# EAGLE library part CEM3340 (library _mtvl_ic)
VCO
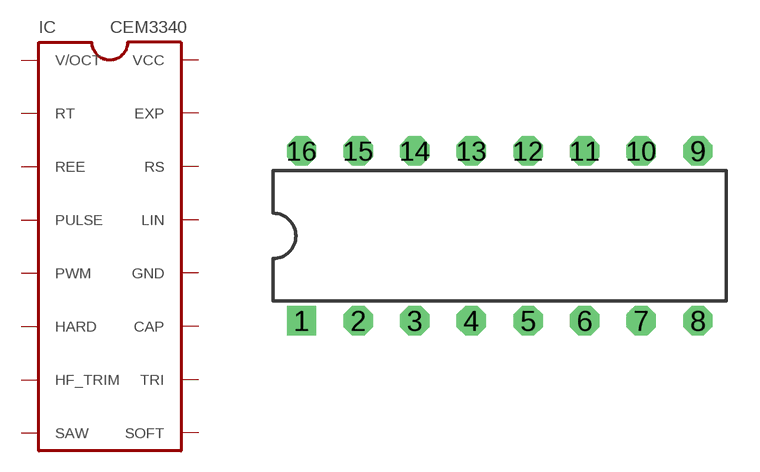
[diagram p13: symbol with the pads of DIL16_; footprint DIL16_]

Designator prefix IC

## CEM3340  [DIL16_]
1  V/OCT  in
2  RT
3  REE  pwr
4  PULSE  out
5  PWM  in
6  HARD  in
7  HF_TRIM
8  SAW  out
9  SOFT  in
10  TRI  out
11  CAP
12  GND  pwr
13  LIN  in
14  RS
15  EXP
16  VCC  pwr

## Footprint DIL16_ (pad centres in mm)
Dual In Line Package
drill 0.813 square: 1 -8.89,-3.81
drill 0.813 octagon: 2 -6.35,-3.81; 3 -3.81,-3.81; 4 -1.27,-3.81; 5 1.27,-3.81; 6 3.81,-3.81; 7 6.35,-3.81; 8 8.89,-3.81; 9 8.89,3.81; 10 6.35,3.81; 11 3.81,3.81; 12 1.27,3.81; 13 -1.27,3.81; 14 -3.81,3.81; 15 -6.35,3.81; 16 -8.89,3.81